# Altium integrated library C0805C220J5GACTU.IntLib: 1 symbol
Pins are listed as number, name and electrical type; pins without a type are passive.

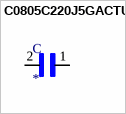
[diagram p0: symbol C0805C220J5GACTU]

## C0805C220J5GACTU
designator C
22pF Â±5% 50V Ceramic Capacitor C0G, NP0 0805 _2012 Metric_; MP: C0805C220J5GACTU; MF: KEMET; Value: *; Package: 0805 Kemet; SnapEDA_Link: https://www.snapeda.com/parts/C0805C220J5GACTU/KEMET/view-part/349913/?ref=snap; Price: None; Availability: Unavailable
footprint CAPC2012X140N
pins: 1, 2